# EAGLE library part PCM2704 (library JKW_CHIP)
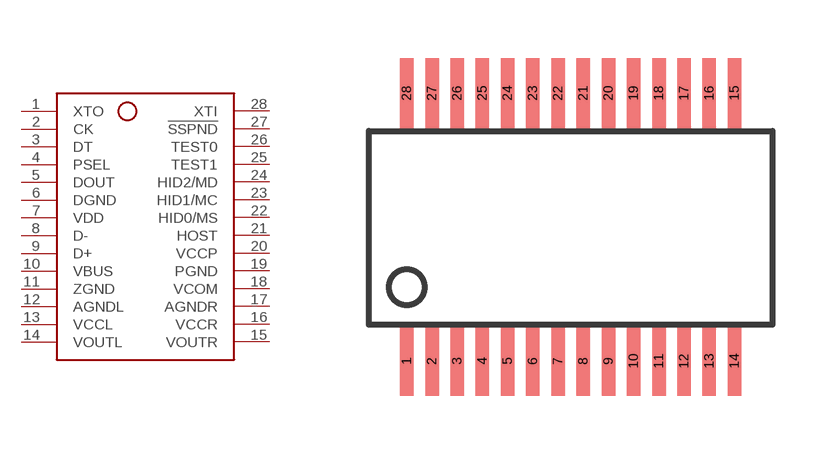
[diagram p7: symbol with the pads of SSOT28; footprint SSOT28]

Designator prefix -

## PCM2704  [SSOT28]
1  XTO
2  CK
3  DT
4  PSEL
5  DOUT
6  DGND  pwr
7  VDD  pwr
8  D-
9  D+
10  VBUS  pwr
11  ZGND  pwr
12  AGNDL  pwr
13  VCCL  pwr
14  VOUTL  out
15  VOUTR  out
16  VCCR  pwr
17  AGNDR  pwr
18  VCOM  pwr
19  PGND  pwr
20  VCCP  pwr
21  HOST  pwr
22  HID0/MS
23  HID1/MC
24  HID2/MD
25  TEST1
26  TEST0
27  !SSPND
28  XTI

## Footprint SSOT28 (pad centres in mm)
smd 0.348 x 1.8: 1 -4.303,-3.964; 2 -3.653,-3.964; 3 -3.003,-3.964; 4 -2.353,-3.964; 5 -1.703,-3.964; 6 -1.053,-3.964; 7 -0.403,-3.964; 8 0.247,-3.964; 9 0.897,-3.964; 10 1.547,-3.964; 11 2.197,-3.964; 12 2.847,-3.964; 13 3.497,-3.964; 14 4.147,-3.964; 15 4.147,2.948; 16 3.497,2.948; 17 2.847,2.948; 18 2.197,2.948; 19 1.547,2.948; 20 0.897,2.948; 21 0.247,2.948; 22 -0.403,2.948; 23 -1.053,2.948; 24 -1.703,2.948; 25 -2.353,2.948; 26 -3.003,2.948; 27 -3.653,2.948; 28 -4.303,2.948